# EAGLE library part DS_IC_PERIPHERALS_ADS9234R (library Module_AIO)
ADS92x4R Dual, Low-Latency, Simultaneous-Sampling SAR ADC
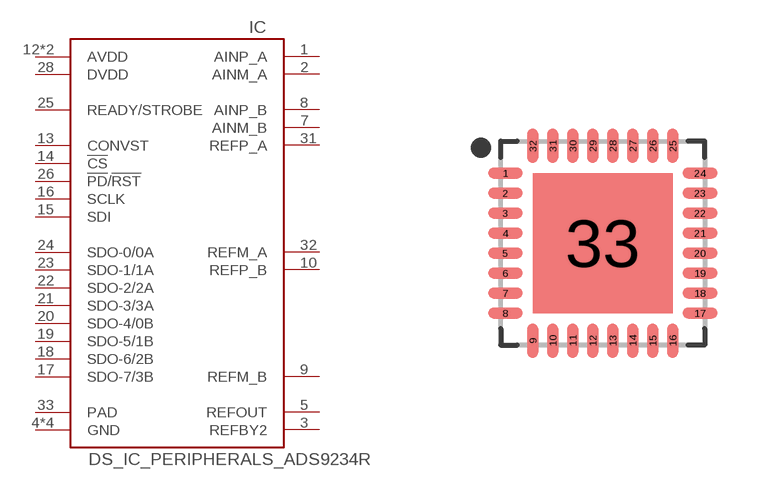
[diagram p0: symbol with the pads of DS_IC_PERIPHERALS_VQFN32-5X5; footprint DS_IC_PERIPHERALS_VQFN32-5X5]

Designator prefix IC

## DS_IC_PERIPHERALS_ADS9234RIRHBR  [DS_IC_PERIPHERALS_VQFN32-5X5]
1  AINP_A  in
2  AINM_A  in
3  REFBY2  out
4  GND  pwr
5  REFOUT  out
7  AINM_B  in
8  AINP_B  in
9  REFM_B  out
10  REFP_B  out
11  GND  pwr
12  AVDD  pwr
13  CONVST  in
14  !CS  in
15  SDI  in
16  SCLK  in
17  SDO-7/3B  out
18  SDO-6/2B  out
19  SDO-5/1B  out
20  SDO-4/0B  out
21  SDO-3/3A  out
22  SDO-2/2A  out
23  SDO-1/1A  out
24  SDO-0/0A  out
25  READY/STROBE  out
26  !PD!/!RST  in
27  GND  pwr
28  DVDD  pwr
29  AVDD  pwr
30  GND  pwr
31  REFP_A  out
32  REFM_A  out
33  PAD  pwr

## Footprint DS_IC_PERIPHERALS_VQFN32-5X5 (pad centres in mm)
32-QFN, 0.50 mm pitch, 5.00 X 5.00 X 1.00 mm body, 3.50 X 3.50 mm thermal pad 32-pin QFN package with 0.50 mm pitch with body size 5.00 X 5.00 X 1.00 mm and thermal pad size 3.50 X 3.50 mm
smd 0.86 x 0.27: 1 -2.435,1.75; 2 -2.435,1.25; 3 -2.435,0.75; 4 -2.435,0.25; 5 -2.435,-0.25; 6 -2.435,-0.75; 7 -2.435,-1.25; 8 -2.435,-1.75; 17 2.435,-1.75; 18 2.435,-1.25; 19 2.435,-0.75; 20 2.435,-0.25; 21 2.435,0.25; 22 2.435,0.75; 23 2.435,1.25; 24 2.435,1.75
smd 0.27 x 0.86: 9 -1.75,-2.435; 10 -1.25,-2.435; 11 -0.75,-2.435; 12 -0.25,-2.435; 13 0.25,-2.435; 14 0.75,-2.435; 15 1.25,-2.435; 16 1.75,-2.435; 25 1.75,2.435; 26 1.25,2.435; 27 0.75,2.435; 28 0.25,2.435; 29 -0.25,2.435; 30 -0.75,2.435; 31 -1.25,2.435; 32 -1.75,2.435
smd 3.5 x 3.5: 33 0,0